# EAGLE library part L6470-SHIELD (library powerSTEP01-Shield)
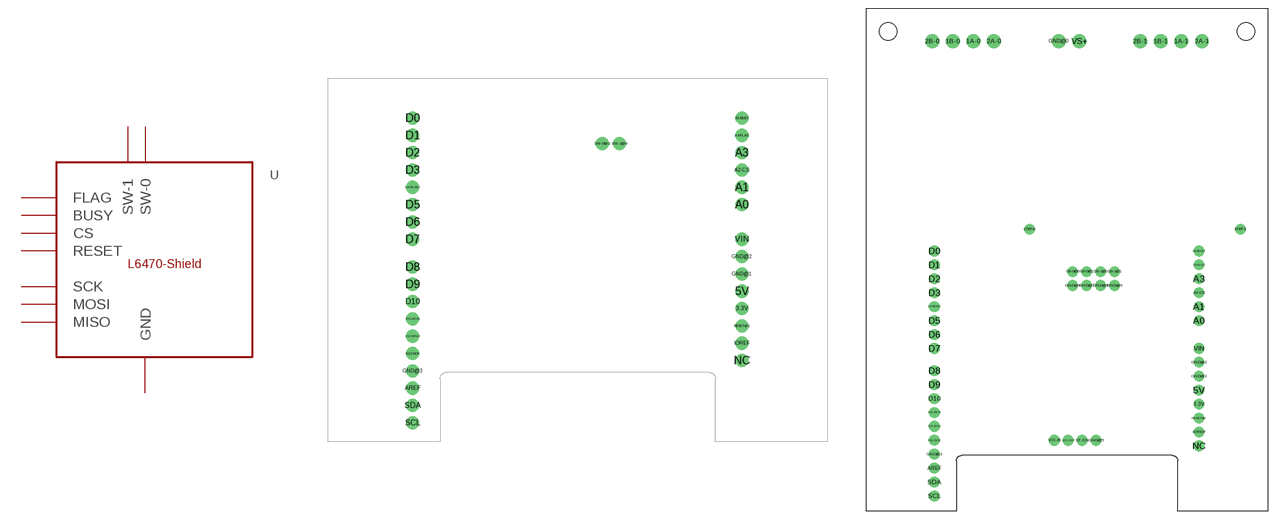
[diagram p0: symbol with the pads of L6470-ONLY-ARDUINO; footprints L6470-ONLY-ARDUINO, L6470-2]

Designator prefix -

## L6470-SHIELD  [L6470-ONLY-ARDUINO]
A2-CS  CS  in
A4-FLAG  FLAG  out
A5-BUSY  BUSY
D4-RESET  RESET  in
D11-MOSI  MOSI  in
D12-MISO  MISO  out
D13-SCK  SCK  in
GND@1  GND  pwr
GND@2  GND  pwr
GND@3  GND  pwr
SW-0@1  SW-0  in
SW-1@0  SW-1  in

## L6470-SHIELDWITH-MOT-PWR  [L6470-2]
A2-CS  CS  in
A4-FLAG  FLAG  out
A5-BUSY  BUSY
D4-RESET  RESET  in
D11-MOSI  MOSI  in
D12-MISO  MISO  out
D13-SCK  SCK  in
GND@0  GND  pwr
GND@1  GND  pwr
GND@2  GND  pwr
GND@3  GND  pwr
GND@5  GND  pwr
GND@6  GND  pwr
GND@7  GND  pwr
GND@8  GND  pwr
GND@9  GND  pwr
SW-0@0  SW-0  in
SW-1@0  SW-1  in

## Footprint L6470-ONLY-ARDUINO (pad centres in mm)
drill 1.016 pad 1.93: 3.3V 60.66,19.56; 5V 60.66,22.1; A0 60.66,34.8; A1 60.66,37.34; A2-CS 60.66,39.88; A3 60.66,42.42; A4-FLAG 60.66,44.96; A5-BUSY 60.66,47.5; AREF 12.4,7.876; D0 12.4,47.5; D1 12.4,44.96; D2 12.4,42.42; D3 12.4,39.88; D4-RESET 12.4,37.34; D5 12.4,34.8; D6 12.4,32.26; D7 12.4,29.72; D8 12.4,25.656; D9 12.4,23.116; D10 12.4,20.576; D11-MOSI 12.4,18.036; D12-MISO 12.4,15.496; D13-SCK 12.4,12.956; GND@1 60.66,24.64; GND@2 60.66,27.18; GND@3 12.4,10.416; IOREF 60.66,14.48; NC 60.66,11.94; RESET@1 60.66,17.02; SCL 12.4,2.796; SDA 12.4,5.336; SW-0@1 40.18,43.74; SW-1@0 42.72,43.74; VIN 60.66,29.72

## Footprint L6470-2 (pad centres in mm)
drill 1.1 pad 2.54: 1A-0 19.5,85.8; 1A-1 57.45,85.8; 1B-0 15.75,85.8; 1B-1 53.7,85.8; 2A-0 23.26,85.81; 2A-1 61.21,85.81; 2B-0 12,85.8; 2B-1 49.95,85.8; GND@0 35.1,85.8; VS+ 38.85,85.8
drill 1.016 pad 1.93: 3.3V 60.66,19.56; 5V 60.66,22.1; A0 60.66,34.8; A1 60.66,37.34; A2-CS 60.66,39.88; A3 60.66,42.42; A4-FLAG 60.66,44.96; A5-BUSY 60.66,47.5; AREF 12.4,7.876; D0 12.4,47.5; D1 12.4,44.96; D2 12.4,42.42; D3 12.4,39.88; D4-RESET 12.4,37.34; D5 12.4,34.8; D6 12.4,32.26; D7 12.4,29.72; D8 12.4,25.656; D9 12.4,23.116; D10 12.4,20.576; D11-MOSI 12.4,18.036; D12-MISO 12.4,15.496; D13-SCK 12.4,12.956; GND@1 60.66,24.64; GND@2 60.66,27.18; GND@3 12.4,10.416; GND@5 41.9,12.95; GND@6 37.64,41.2; GND@7 40.18,41.2; GND@8 42.72,41.2; GND@9 45.26,41.2; IOREF 60.66,14.48; NC 60.66,11.94; RESET@1 60.66,17.02; SCL 12.4,2.796; SDA 12.4,5.336; ST-EN 39.36,12.95; STEP-0 29.74,51.44; STEP-1 68.2,51.45; SW-0@0 37.64,43.74; SW-0@1 40.18,43.74; SW-1@0 42.72,43.74; SW-1@1 45.26,43.74; VCC-IN 34.28,12.95; VCC-OUT 36.82,12.95; VIN 60.66,29.72
hole 3.2 at 3.95,87.55
hole 3.2 at 69.25,87.55